# Altium schematic symbol library STPS30.Schlib: 1 symbol
Pins are listed as number, name and electrical type; pins without a type are passive.

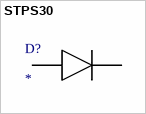
[diagram p0: symbol STPS30]

## STPS30
designator D?
pins: 1 A, 5 C